# Altium schematic symbol library bmb_extender.SchLib: 2 symbols
Pins are listed as number, name and electrical type; pins without a type are passive.

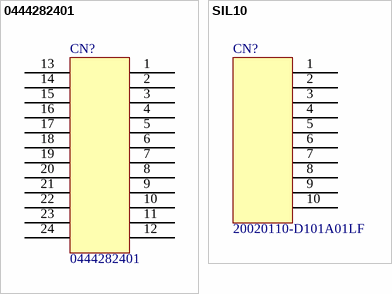
[diagram p0: symbols 0444282401 to SIL10]

## 0444282401
designator CN?
footprint MOLEX_0444282401
pins: 1, 2, 3, 4, 5, 6, 7, 8, 9, 10, 11, 12, 13, 14, 15, 16, 17, 18, 19, 20, 21, 22, 23, 24

## SIL10
designator CN?, comment 20020110-D101A01LF
pins: 1, 2, 3, 4, 5, 6, 7, 8, 9, 10